# Altium schematic symbol library SCH-MCU-WCH-CH32F203VCT6-LQFP100.SchLib: 1 symbol
Pins are listed as number, name and electrical type; pins without a type are passive.

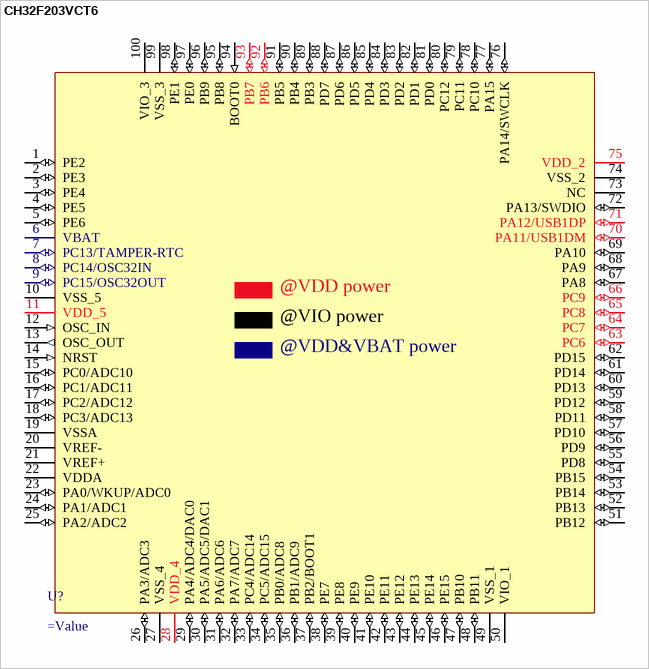
[diagram p0: symbol CH32F203VCT6]

## CH32F203VCT6
designator U?
pins: 1 PE2 (io), 2 PE3 (io), 3 PE4 (io), 4 PE5 (io), 5 PE6 (io), 6 VBAT (power), 7 PC13/TAMPER-RTC (io), 8 PC14/OSC32IN (io), 9 PC15/OSC32OUT (io), 10 VSS_5 (power), 11 VDD_5 (power), 12 OSC_IN (in), 13 OSC_OUT (out), 14 NRST (in), 15 PC0/ADC10 (io), 16 PC1/ADC11 (io), 17 PC2/ADC12 (io), 18 PC3/ADC13 (io), 19 VSSA (power), 20 VREF- (power), 21 VREF+ (power), 22 VDDA (power), 23 PA0/WKUP/ADC0 (io), 24 PA1/ADC1 (io), 25 PA2/ADC2 (io), 26 PA3/ADC3 (io), 27 VSS_4 (power), 28 VDD_4 (power), 29 PA4/ADC4/DAC0 (io), 30 PA5/ADC5/DAC1 (io), 31 PA6/ADC6 (io), 32 PA7/ADC7 (io), 33 PC4/ADC14 (io), 34 PC5/ADC15 (io), 35 PB0/ADC8 (io), 36 PB1/ADC9 (io), 37 PB2/BOOT1 (io), 38 PE7 (io), 39 PE8 (io), 40 PE9 (io), 41 PE10 (io), 42 PE11 (io), 43 PE12 (io), 44 PE13 (io), 45 PE14 (io), 46 PE15 (io), 47 PB10 (io), 48 PB11 (io), 49 VSS_1 (power), 50 VIO_1 (power), 51 PB12 (io), 52 PB13 (io), 53 PB14 (io), 54 PB15 (io), 55 PD8 (io), 56 PD9 (io), 57 PD10 (io), 58 PD11 (io), 59 PD12 (io), 60 PD13 (io), 61 PD14 (io), 62 PD15 (io), 63 PC6 (io), 64 PC7 (io), 65 PC8 (io), 66 PC9 (io), 67 PA8 (io), 68 PA9 (io), 69 PA10 (io), 70 PA11/USB1DM (io), 71 PA12/USB1DP (io), 72 PA13/SWDIO (io), 73 NC (hiz), 74 VSS_2 (power), 75 VDD_2 (power), 76 PA14/SWCLK (io), 77 PA15 (io), 78 PC10 (io), 79 PC11 (io), 80 PC12 (io), 81 PD0 (io), 82 PD1 (io), 83 PD2 (io), 84 PD3 (io), 85 PD4 (io), 86 PD5 (io), 87 PD6 (io), 88 PD7 (io), 89 PB3 (io), 90 PB4 (io), 91 PB5 (io), 92 PB6 (io), 93 PB7 (io), 94 BOOT0 (in), 95 PB8 (io), 96 PB9 (io), 97 PE0 (io), 98 PE1 (io), 99 VSS_3 (power), 100 VIO_3 (power)
text: @VDD power; @VIO power; @VDD&VBAT power